# Altium footprint library P160KN0QC15B10K.PcbLib: 1 footprints
Each footprint in its own frame and in the unit in brackets; x right, y up, seen from the top. Pads: shape width x height; smd on the part's side, far side on the other; paste and mask are expansions set on the pad; w line width, h text height; cw(c..) or ccw(c..) is an arc to the next point about the centre after c.
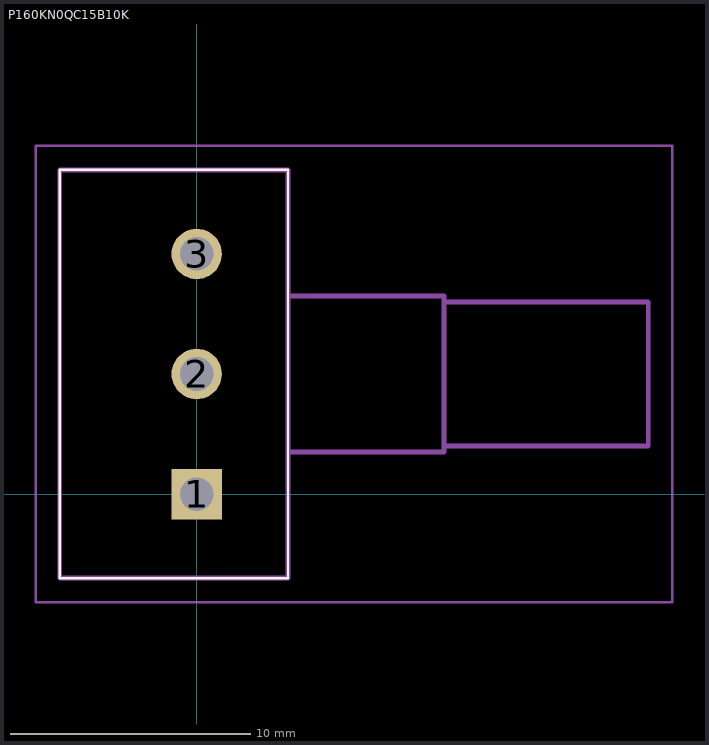
[diagram p0: the footprint, top view; thin cyan lines are the x and y axes]

## P160KN0QC15B10K [mm]
pads (3):
  rect 2.1x2.1 hole 1.4: 1(0,0)
  round 2.1 hole 1.4: 2(0,5) 3(0,10)
Top Overlay:
  lines w0.1: -5.7,-3.5 3.8,-3.5 3.8,13.5 -5.7,13.5 -5.7,-3.5
Mechanical 15:
  lines w0.2: -5.7,-3.5 3.8,-3.5 3.8,13.5 -5.7,13.5 -5.7,-3.5 ; 3.8,1.75 10.3,1.75 10.3,8.25 3.8,8.25 3.8,1.75 ; 10.3,2 18.8,2 18.8,8 10.3,8 10.3,2
Mechanical 20:
  lines w0.1: -6.7,-4.5 19.8,-4.5 19.8,14.5 -6.7,14.5 -6.7,-4.5